# EAGLE library part TLP291-4 (library HyTechDevices2)
Toshiba Quad Channel Optocoupler TLP291-4
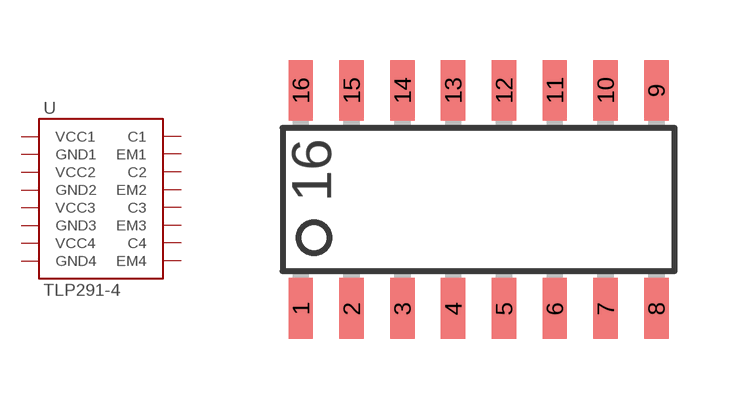
[diagram p33: symbol with the pads of SOIC-16; footprint SOIC-16]

Designator prefix -

## TLP291-4  [SOIC-16]
1  VCC1  pas
2  GND1  pas
3  VCC2  pas
4  GND2  pas
5  VCC3  pas
6  GND3  pas
7  VCC4  pas
8  GND4  pas
9  EM4  pas
10  C4  pas
11  EM3  pas
12  C3  pas
13  EM2  pas
14  C2  pas
15  EM1  pas
16  C1  pas

## Footprint SOIC-16 (pad centres in mm)
Small Outline Integrated Circuit
smd 0.61 x 1.524: 1 -4.445,-2.794; 2 -3.175,-2.794; 3 -1.905,-2.794; 4 -0.635,-2.794; 5 0.635,-2.794; 6 1.905,-2.794; 7 3.175,-2.794; 8 4.445,-2.794; 9 4.445,2.667; 10 3.175,2.667; 11 1.905,2.667; 12 0.635,2.667; 13 -0.635,2.667; 14 -1.905,2.667; 15 -3.175,2.667; 16 -4.445,2.667